# EAGLE library part EZG-?-332 (library con-lemo)
LEMO Connector Source: http://www.lemo.com/pdfs/catalog/ROW/German/unipole_multipole.pdf
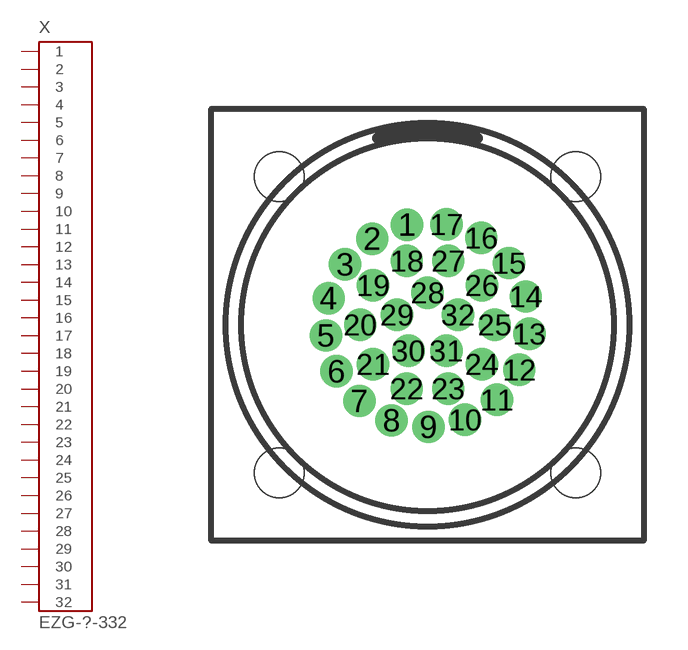
[diagram p11: symbol with the pads of EZG-2B-2K-332; footprint EZG-2B-2K-332]

Designator prefix X

## EZG-2B-332  [EZG-2B-2K-332]
1  1  pas
2  2  pas
3  3  pas
4  4  pas
5  5  pas
6  6  pas
7  7  pas
8  8  pas
9  9  pas
10  10  pas
11  11  pas
12  12  pas
13  13  pas
14  14  pas
15  15  pas
16  16  pas
17  17  pas
18  18  pas
19  19  pas
20  20  pas
21  21  pas
22  22  pas
23  23  pas
24  24  pas
25  25  pas
26  26  pas
27  27  pas
28  28  pas
29  29  pas
30  30  pas
31  31  pas
32  32  pas

## EZG-2K-332  [EZG-2B-2K-332]
Pads as for EZG-2B-2K-332

## Footprint EZG-2B-2K-332 (pad centres in mm)
LEMO Connector Source: http://www.lemo.com/pdfs/catalog/ROW/German/unipole_multipole.pdf
drill 0.6 pad 1 round: 1 -0.704,3.429; 2 -1.891,2.945; 3 -2.825,2.066; 4 -3.38,0.91; 5 -3.481,-0.368; 6 -3.114,-1.597; 7 -2.33,-2.611; 8 -1.233,-3.276; 9 0.029,-3.5; 10 1.288,-3.254; 11 2.373,-2.572; 12 3.141,-1.545; 13 3.486,-0.31; 14 3.364,0.966; 15 2.79,2.113; 16 1.842,2.976; 17 0.646,3.44; 18 -0.711,2.187; 19 -1.861,1.352; 20 -2.3,0; 21 -1.861,-1.352; 22 -0.711,-2.187; 23 0.711,-2.187; 24 1.861,-1.352; 25 2.3,0; 26 1.861,1.352; 27 0.711,2.187; 28 0,1.1; 29 -1.046,0.34; 30 -0.647,-0.89; 31 0.647,-0.89; 32 1.046,0.34
hole 1.7 at -5.08,5.08
hole 1.7 at 5.08,5.08
hole 1.7 at 5.08,-5.08
hole 1.7 at -5.08,-5.08